# Altium schematic symbol library breadboard_30.Schlib: 1 symbol
Pins are listed as number, name and electrical type; pins without a type are passive.

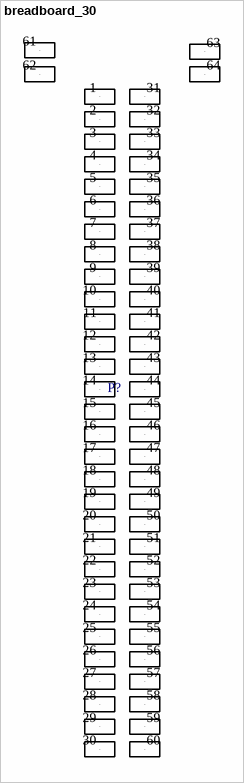
[diagram p0: symbol breadboard_30]

## breadboard_30
designator P?  (value not drawn)
pins: 1 L1, 2 L2, 3 L3, 4 L4, 5 L5, 6 L6, 7 L7, 8 L8, 9 L9, 10 L10, 11 L11, 12 L12, 13 L13, 14 L14, 15 L15, 16 L16, 17 L17, 18 L18, 19 L19, 20 L20, 21 L21, 22 L22, 23 L23, 24 L24, 25 L25, 26 L26, 27 L27, 28 L28, 29 L29, 30 L30, 31 R1, 32 R2, 33 R3, 34 R4, 35 R5, 36 R6, 37 R7, 38 R8, 39 R9, 40 R10, 41 R11, 42 R12, 43 R13, 44 R14, 45 R15, 46 R16, 47 R17, 48 R18, 49 R19, 50 R20, 51 R21, 52 R22, 53 R23, 54 R24, 55 R25, 56 R26, 57 R27, 58 R28, 59 R29, 60 R30, 61 Rial1, 62 Rail2, 63 Rail3, 64 Rail4